# EAGLE library part ATSAM4E16C (library u_mcu_atmel_atsam4e16c_tfbga-100)
ATSAM4E16C Atmel Cortex M4 microcontroller TFBGA-100 package 1MB flash 128K RAM
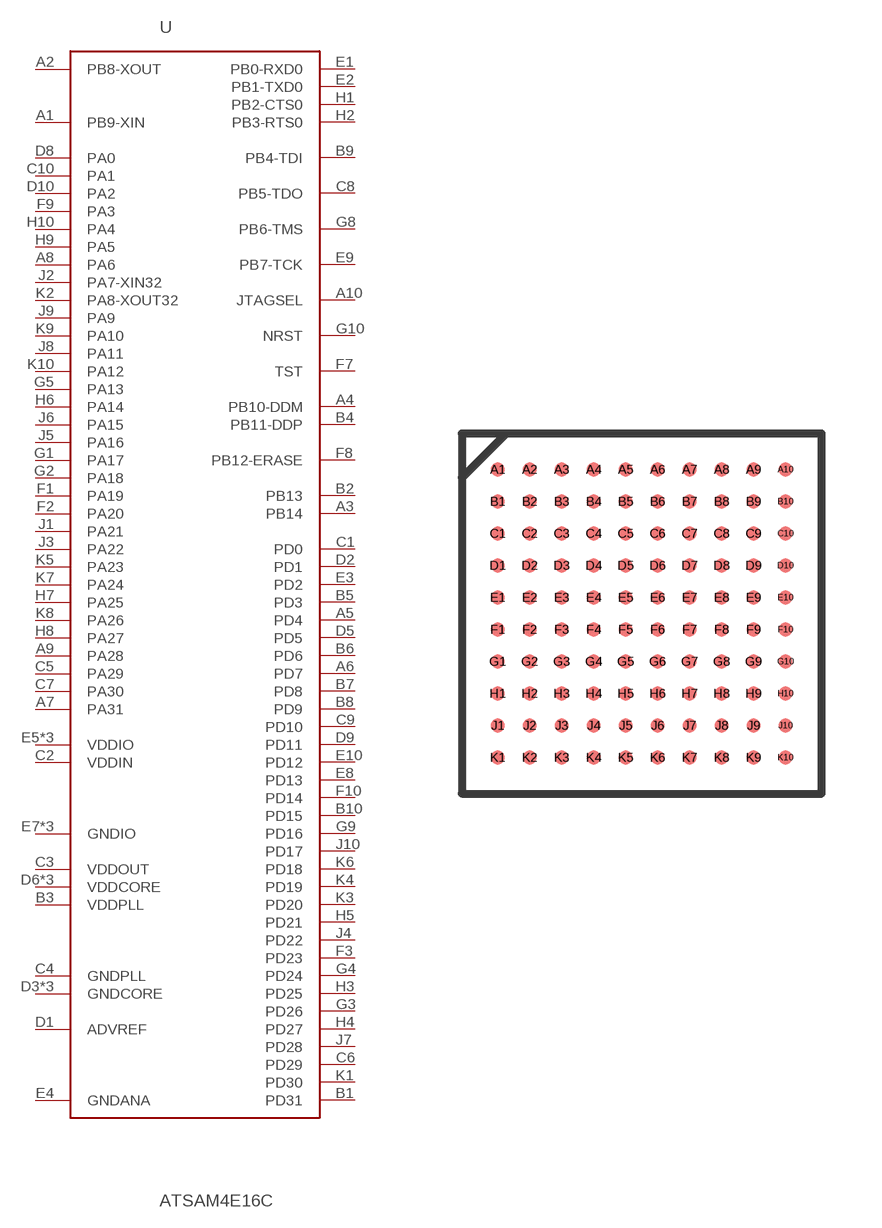
[diagram p0: symbol with the pads of LFBGA-100; footprint LFBGA-100]

Designator prefix U

## ATSAM4E16C  [LFBGA-100]
A1  PB9-XIN
A2  PB8-XOUT
A3  PB14
A4  PB10-DDM
A5  PD4
A6  PD7
A7  PA31
A8  PA6
A9  PA28
A10  JTAGSEL
B1  PD31
B2  PB13
B3  VDDPLL  pwr
B4  PB11-DDP
B5  PD3
B6  PD6
B7  PD8
B8  PD9
B9  PB4-TDI
B10  PD15
C1  PD0
C2  VDDIN  pwr
C3  VDDOUT  pwr
C4  GNDPLL  pwr
C5  PA29
C6  PD29
C7  PA30
C8  PB5-TDO
C9  PD10
C10  PA1
D1  ADVREF  pwr
D2  PD1
D3  GNDCORE  pwr
D4  GNDCORE  pwr
D5  PD5
D6  VDDCORE  pwr
D7  VDDCORE  pwr
D8  PA0
D9  PD11
D10  PA2
E1  PB0-RXD0
E2  PB1-TXD0
E3  PD2
E4  GNDANA  pwr
E5  VDDIO  pwr
E6  VDDIO  pwr
E7  GNDIO  pwr
E8  PD13
E9  PB7-TCK
E10  PD12
F1  PA19
F2  PA20
F3  PD23
F4  GNDIO  pwr
F5  GNDCORE  pwr
F6  GNDIO  pwr
F7  TST
F8  PB12-ERASE
F9  PA3
F10  PD14
G1  PA17
G2  PA18
G3  PD26
G4  PD24
G5  PA13
G6  VDDCORE  pwr
G7  VDDIO  pwr
G8  PB6-TMS
G9  PD16
G10  NRST
H1  PB2-CTS0
H2  PB3-RTS0
H3  PD25
H4  PD27
H5  PD21
H6  PA14
H7  PA25
H8  PA27
H9  PA5
H10  PA4
J1  PA21
J2  PA7-XIN32
J3  PA22
J4  PD22
J5  PA16
J6  PA15
J7  PD28
J8  PA11
J9  PA9
J10  PD17
K1  PD30
K2  PA8-XOUT32
K3  PD20
K4  PD19
K5  PA23
K6  PD18
K7  PA24
K8  PA26
K9  PA10
K10  PA12

## Footprint LFBGA-100 (pad centres in mm)
LFBGA-100 package as per Atmel recommendations. 10 x 10, 0.8 mm pitch, 0.4 mm ball diameter, non-solder-mask defined lands.
smd 0.35 x 0.35: A1 -3.6,3.6; A2 -2.8,3.6; A3 -2,3.6; A4 -1.2,3.6; A5 -0.4,3.6; A6 0.4,3.6; A7 1.2,3.6; A8 2,3.6; A9 2.8,3.6; A10 3.6,3.6; B1 -3.6,2.8; B2 -2.8,2.8; B3 -2,2.8; B4 -1.2,2.8; B5 -0.4,2.8; B6 0.4,2.8; B7 1.2,2.8; B8 2,2.8; B9 2.8,2.8; B10 3.6,2.8; C1 -3.6,2; C2 -2.8,2; C3 -2,2; C4 -1.2,2; C5 -0.4,2; C6 0.4,2; C7 1.2,2; C8 2,2; C9 2.8,2; C10 3.6,2; D1 -3.6,1.2; D2 -2.8,1.2; D3 -2,1.2; D4 -1.2,1.2; D5 -0.4,1.2; D6 0.4,1.2; D7 1.2,1.2; D8 2,1.2; D9 2.8,1.2; D10 3.6,1.2; E1 -3.6,0.4; E2 -2.8,0.4; E3 -2,0.4; E4 -1.2,0.4; E5 -0.4,0.4; E6 0.4,0.4; E7 1.2,0.4; E8 2,0.4; E9 2.8,0.4; E10 3.6,0.4; F1 -3.6,-0.4; F2 -2.8,-0.4; F3 -2,-0.4; F4 -1.2,-0.4; F5 -0.4,-0.4; F6 0.4,-0.4; F7 1.2,-0.4; F8 2,-0.4; F9 2.8,-0.4; F10 3.6,-0.4; G1 -3.6,-1.2; G2 -2.8,-1.2; G3 -2,-1.2; G4 -1.2,-1.2; G5 -0.4,-1.2; G6 0.4,-1.2; G7 1.2,-1.2; G8 2,-1.2; G9 2.8,-1.2; G10 3.6,-1.2; H1 -3.6,-2; H2 -2.8,-2; H3 -2,-2; H4 -1.2,-2; H5 -0.4,-2; H6 0.4,-2; H7 1.2,-2; H8 2,-2; H9 2.8,-2; H10 3.6,-2; J1 -3.6,-2.8; J2 -2.8,-2.8; J3 -2,-2.8; J4 -1.2,-2.8; J5 -0.4,-2.8; J6 0.4,-2.8; J7 1.2,-2.8; J8 2,-2.8; J9 2.8,-2.8; J10 3.6,-2.8; K1 -3.6,-3.6; K2 -2.8,-3.6; K3 -2,-3.6; K4 -1.2,-3.6; K5 -0.4,-3.6; K6 0.4,-3.6; K7 1.2,-3.6; K8 2,-3.6; K9 2.8,-3.6; K10 3.6,-3.6